# Altium schematic symbol library MCU_Dialog.SchLib: 2 symbols
Pins are listed as number, name and electrical type; pins without a type are passive.

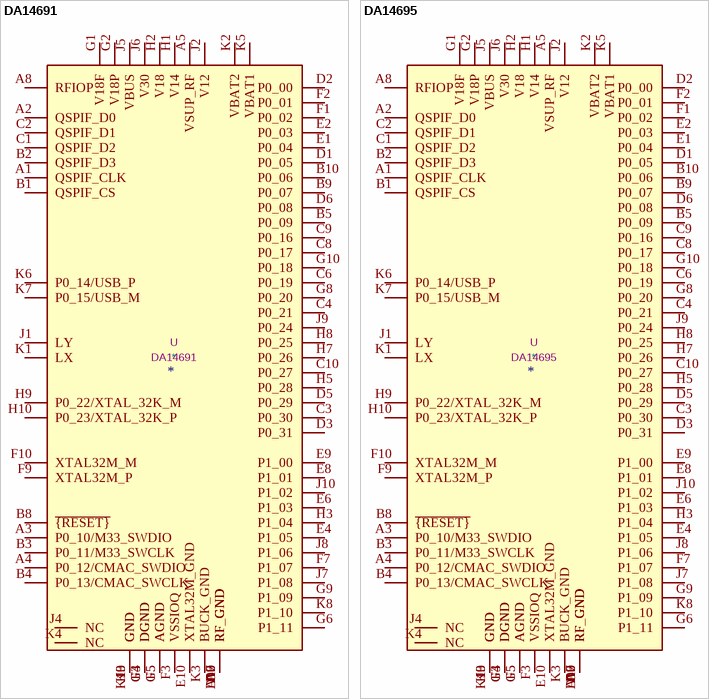
[diagram p0: symbols DA14691 to DA14695]

## DA14691
designator *  value DA14691  Reference: U
Multi-core BLE 5.1 SoC series, 96-MHz/32-bit ARM Cortex-M33, 128 kB ROM, 384 kB SRAM, 4 kB OTP Memory, 16 kB cache SRAM, VFBGA-86; ki_keywords: BLE MCU; ki_fp_filters: VFBGA*6x6mm*Layout10x10*P0.55mm*; Footprint: Package_BGA:VFBGA-86_6x6mm_Layout10x10_P0.55mm; Datasheet: https://www.dialog-semiconductor.com/sites/default/files/da1469x_datasheet_3v1.pdf; Description_: Multi-core BLE 5.1 SoC series, 96-MHz/32-bit ARM Cortex-M33, 128 kB ROM, 384 kB SRAM, 4 kB OTP Memory, 16 kB cache SRAM, VFBGA-86
pins: A1 QSPIF_CLK, A2 QSPIF_D0, A3 P0_10/M33_SWDIO, A4 P0_12/CMAC_SWDIO, A5 VSUP_RF, A6 RF_GND, A7 RF_GND, A8 RFIOP, A9 RF_GND, A10 RF_GND, B1 QSPIF_CS, B2 QSPIF_D3, B3 P0_11/M33_SWCLK, B4 P0_13/CMAC_SWCLK, B5 P0_09, B7 RF_GND, B8 ~{{RESET}}, B9 P0_07, B10 P0_06, C1 QSPIF_D2, C2 QSPIF_D1, C3 P0_30, C4 P0_21, C6 P0_19, C8 P0_17, C9 P0_16, C10 P0_27, D1 P0_05, D2 P0_00, D3 P0_31, D5 P0_29, D6 P0_08, D9 RF_GND, D10 RF_GND, E1 P0_04, E2 P0_03, E4 P1_05, E6 P1_03, E8 P1_01, E9 P1_00, E10 XTAL32M_GND, F1 P0_02, F2 P0_01, F3 VSSIOQ, F4 DGND, F5 AGND, F7 P1_07, F9 XTAL32M_P, F10 XTAL32M_M, G1 V18F, G2 V18P, G3 DGND, G4 DGND, G5 AGND, G6 P1_11, G8 P0_20, G9 P1_09, G10 P0_18, H1 V14, H2 V18, H3 P1_04, H5 P0_28, H7 P0_26, H8 P0_25, H9 P0_22/XTAL_32K_M, H10 P0_23/XTAL_32K_P, J1 LY, J2 V12, J3 GND, J4 NC, J5 VBUS, J6 V30, J7 P1_08, J8 P1_06, J9 P0_24, J10 P1_02, K1 LX, K2 VBAT2, K3 BUCK_GND, K4 NC, K5 VBAT1, K6 P0_14/USB_P, K7 P0_15/USB_M, K8 P1_10, K9 GND, K10 GND

## DA14695
designator *  value DA14695  Reference: U
Multi-core BLE 5.1 Soc series, 96-MHz/32-bit ARM Cortex-M33, 128 kB ROM, 512 kB SRAM, 4 kB OTP Memory, 16 kB cache SRAM, VFBGA-86; ki_keywords: BLE MCU; ki_fp_filters: VFBGA*6x6mm*Layout10x10*P0.55mm*; Footprint: Package_BGA:VFBGA-86_6x6mm_Layout10x10_P0.55mm; Datasheet: https://www.dialog-semiconductor.com/sites/default/files/da1469x_datasheet_3v1.pdf; Description_: Multi-core BLE 5.1 Soc series, 96-MHz/32-bit ARM Cortex-M33, 128 kB ROM, 512 kB SRAM, 4 kB OTP Memory, 16 kB cache SRAM, VFBGA-86
pins: A1 QSPIF_CLK, A2 QSPIF_D0, A3 P0_10/M33_SWDIO, A4 P0_12/CMAC_SWDIO, A5 VSUP_RF, A6 RF_GND, A7 RF_GND, A8 RFIOP, A9 RF_GND, A10 RF_GND, B1 QSPIF_CS, B2 QSPIF_D3, B3 P0_11/M33_SWCLK, B4 P0_13/CMAC_SWCLK, B5 P0_09, B7 RF_GND, B8 ~{{RESET}}, B9 P0_07, B10 P0_06, C1 QSPIF_D2, C2 QSPIF_D1, C3 P0_30, C4 P0_21, C6 P0_19, C8 P0_17, C9 P0_16, C10 P0_27, D1 P0_05, D2 P0_00, D3 P0_31, D5 P0_29, D6 P0_08, D9 RF_GND, D10 RF_GND, E1 P0_04, E2 P0_03, E4 P1_05, E6 P1_03, E8 P1_01, E9 P1_00, E10 XTAL32M_GND, F1 P0_02, F2 P0_01, F3 VSSIOQ, F4 DGND, F5 AGND, F7 P1_07, F9 XTAL32M_P, F10 XTAL32M_M, G1 V18F, G2 V18P, G3 DGND, G4 DGND, G5 AGND, G6 P1_11, G8 P0_20, G9 P1_09, G10 P0_18, H1 V14, H2 V18, H3 P1_04, H5 P0_28, H7 P0_26, H8 P0_25, H9 P0_22/XTAL_32K_M, H10 P0_23/XTAL_32K_P, J1 LY, J2 V12, J3 GND, J4 NC, J5 VBUS, J6 V30, J7 P1_08, J8 P1_06, J9 P0_24, J10 P1_02, K1 LX, K2 VBAT2, K3 BUCK_GND, K4 NC, K5 VBAT1, K6 P0_14/USB_P, K7 P0_15/USB_M, K8 P1_10, K9 GND, K10 GND